# EAGLE library part SN74LVC2G74 (library components)
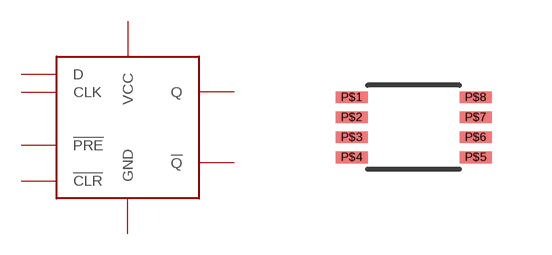
[diagram p4: symbol with the pads of VSSOP8; footprint VSSOP8]

Designator prefix U

## SN74LVC2G74  [VSSOP8]
P$1  CLK
P$2  D
P$3  !Q
P$4  GND
P$5  Q
P$6  !CLR
P$7  !PRE
P$8  VCC

## Footprint VSSOP8 (pad centres in mm)
smd 0.8 x 0.3: P$1 -1.55,0.75; P$2 -1.55,0.25; P$3 -1.55,-0.25; P$4 -1.55,-0.75; P$5 1.55,-0.75; P$6 1.55,-0.25; P$7 1.55,0.25; P$8 1.55,0.75